# EAGLE library part MEGA328P (library custom)
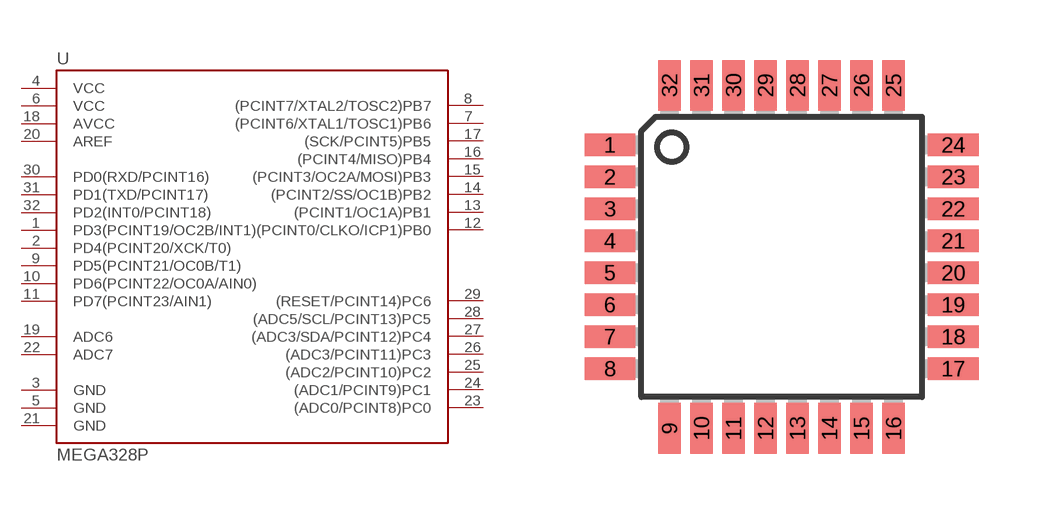
[diagram p1: symbol with the pads of TQFP32-08; footprint TQFP32-08]

Designator prefix -

## MEGA328P  [TQFP32-08]
1  PD3(PCINT19/OC2B/INT1)
2  PD4(PCINT20/XCK/T0)
3  GND  sup
4  VCC  sup
5  GND  sup
6  VCC  sup
7  (PCINT6/XTAL1/TOSC1)PB6
8  (PCINT7/XTAL2/TOSC2)PB7
9  PD5(PCINT21/OC0B/T1)
10  PD6(PCINT22/OC0A/AIN0)
11  PD7(PCINT23/AIN1)
12  (PCINT0/CLKO/ICP1)PB0
13  (PCINT1/OC1A)PB1
14  (PCINT2/SS/OC1B)PB2
15  (PCINT3/OC2A/MOSI)PB3
16  (PCINT4/MISO)PB4
17  (SCK/PCINT5)PB5
18  AVCC  sup
19  ADC6  in
20  AREF  sup
21  GND  sup
22  ADC7  in
23  (ADC0/PCINT8)PC0
24  (ADC1/PCINT9)PC1
25  (ADC2/PCINT10)PC2
26  (ADC3/PCINT11)PC3
27  (ADC3/SDA/PCINT12)PC4
28  (ADC5/SCL/PCINT13)PC5
29  (RESET/PCINT14)PC6
30  PD0(RXD/PCINT16)
31  PD1(TXD/PCINT17)
32  PD2(INT0/PCINT18)

## Footprint TQFP32-08 (pad centres in mm)
Thin Plasic Quad Flat Package Grid 0.8 mm
smd 1.27 x 0.559: 1 -4.293,2.8; 2 -4.293,2; 3 -4.293,1.2; 4 -4.293,0.4; 5 -4.293,-0.4; 6 -4.293,-1.2; 7 -4.293,-2; 8 -4.293,-2.8; 17 4.293,-2.8; 18 4.293,-2; 19 4.293,-1.2; 20 4.293,-0.4; 21 4.293,0.4; 22 4.293,1.2; 23 4.293,2; 24 4.293,2.8
smd 0.559 x 1.27: 9 -2.8,-4.293; 10 -2,-4.293; 11 -1.2,-4.293; 12 -0.4,-4.293; 13 0.4,-4.293; 14 1.2,-4.293; 15 2,-4.293; 16 2.8,-4.293; 25 2.8,4.293; 26 2,4.293; 27 1.2,4.293; 28 0.4,4.293; 29 -0.4,4.293; 30 -1.2,4.293; 31 -2,4.293; 32 -2.8,4.293